# Altium footprint library Communication_Interfaces_RS485_SMD.PcbLib: 2 footprints
Each footprint in its own frame and in the unit in brackets; x right, y up, seen from the top. Pads: shape width x height; smd on the part's side, far side on the other; paste and mask are expansions set on the pad; w line width, h text height; cw(c..) or ccw(c..) is an arc to the next point about the centre after c.
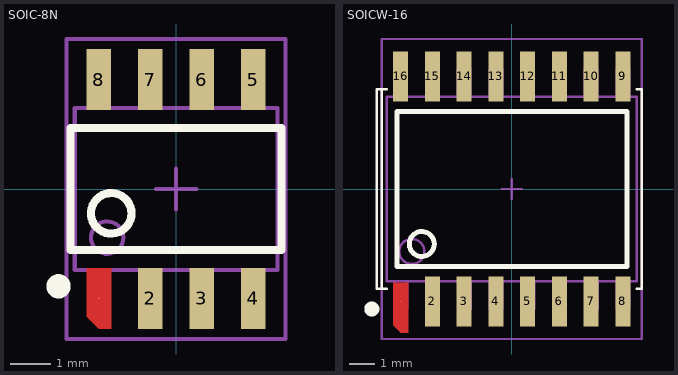
[diagram p0: the footprints below, top view; thin cyan lines are the x and y axes]

## SOIC-8N [mm]
height 1.75
pads (8):
  round 0.025 smd: 1(-1.905,-2.7)
  rect 0.6x1.5 smd: 2(-0.635,-2.7) 3(0.635,-2.7) 4(1.905,-2.7) 5(1.905,2.7) 6(0.635,2.7) 7(-0.635,2.7) 8(-1.905,2.7)
Top Layer:
  region: -2.205,-1.95 -1.605,-1.95 -1.605,-3.45 -1.905,-3.45 -2.205,-3.15
Top Overlay:
  circle w0.2: c-1.6,-0.6 r0.5
  circle w0.3: c-2.9,-2.4 r0.15
  lines w0.2: -2.6,-1.5 2.6,-1.5 2.6,1.5 -2.6,1.5 -2.6,-1.5
Top Package:
  circle w0.1: c-1.7,-1.2 r0.4
  lines w0.1: -2.5,-2 2.5,-2 2.5,2 -2.5,2 -2.5,-2 ; -2.075,-3 -2.075,-2 -1.75,-2 -1.75,-3 -2.075,-3 ; -2.075,2 -1.75,2 -1.75,3 -2.075,3 -2.075,2 ; -0.804,-2.998 -0.479,-2.998 -0.479,-1.998 -0.804,-1.998 -0.804,-2.998 ; -0.804,1.998 -0.479,1.998 -0.479,2.998 -0.804,2.998 -0.804,1.998 ; 0.479,-2.998 0.479,-1.998 0.804,-1.998 0.804,-2.998 0.479,-2.998 ; 0.479,1.998 0.479,2.998 0.804,2.998 0.804,1.998 0.479,1.998 ; 1.749,-3.002 2.074,-3.002 2.074,-2.002 1.749,-2.002 1.749,-3.002 ; 1.75,2 2.075,2 2.075,3 1.75,3 1.75,2
Top Comment:
  text ".Comment" at -2.127,-0.473 h1.5
Top Designator:
  text ".Designator" at -3.443,-0.452 h2
Top Border:
  lines w0.1: -0.5,0 0.5,0 ; 0,-0.5 0,0.5 ; -2.7,-3.7 2.7,-3.7 2.7,3.7 -2.7,3.7 -2.7,-3.7
3D body "User Library-SOIC-8-1.step": height 1.75, standoff 0, extent -2.451,-3.002 2.449,2.998

## SOICW-16 [mm] "7.50mm"
height 2
pads (16):
  round 0.025 smd: 1(-4.445,-4.5)
  rect 0.6x2 smd: 2(-3.175,-4.5) 3(-1.905,-4.5) 4(-0.635,-4.5) 5(0.635,-4.5) 6(1.905,-4.5) 7(3.175,-4.5) 8(4.445,-4.5) 9(4.445,4.5) 10(3.175,4.5) 11(1.905,4.5) 12(0.635,4.5) 13(-0.635,4.5) 14(-1.905,4.5) 15(-3.175,4.5) 16(-4.445,4.5)
Top Layer:
  region: -4.745,-3.75 -4.145,-3.75 -4.145,-5.75 -4.445,-5.75 -4.745,-5.45
Top Overlay:
  circle w0.2: c-3.6,-2.2 r0.5
  circle w0.3: c-5.6,-4.8 r0.15
  lines w0.1: -5.2,-4 -5.2,4 ; -5,-4 -5.4,-4 -5.4,4 -5,4 ; 5,-4 5.2,-4 5.2,4 5,4
  lines w0.2: -4.6,-3.1 4.6,-3.1 4.6,3.1 -4.6,3.1 -4.6,-3.1
Top Package:
  circle w0.1: c-4,-2.5 r0.5
  lines w0.1: -4.7,3.7 -4.7,4.8 -4.2,4.8 -4.2,3.7 ; -4.7,4.25 -4.2,4.25 ; -4.69,-4.25 -4.19,-4.25 ; -4.69,-3.7 -4.69,-4.8 -4.19,-4.8 -4.19,-3.7 ; -3.43,3.7 -3.43,4.8 -2.93,4.8 -2.93,3.7 ; -3.43,4.25 -2.93,4.25 ; -3.42,-4.25 -2.92,-4.25 ; -3.42,-3.7 -3.42,-4.8 -2.92,-4.8 -2.92,-3.7 ; -2.16,3.7 -2.16,4.8 -1.66,4.8 -1.66,3.7 ; -2.16,4.25 -1.66,4.25 ; -2.15,-4.25 -1.65,-4.25 ; -2.15,-3.7 -2.15,-4.8 -1.65,-4.8 -1.65,-3.7 ; -0.89,3.7 -0.89,4.8 -0.39,4.8 -0.39,3.7 ; -0.89,4.25 -0.39,4.25 ; -0.88,-4.25 -0.38,-4.25 ; -0.88,-3.7 -0.88,-4.8 -0.38,-4.8 -0.38,-3.7 ; 0.38,3.7 0.38,4.8 0.88,4.8 0.88,3.7 ; 0.38,4.25 0.88,4.25 ; 0.39,-4.25 0.89,-4.25 ; 0.39,-3.7 0.39,-4.8 0.89,-4.8 0.89,-3.7 ; 1.65,3.7 1.65,4.8 2.15,4.8 2.15,3.7 ; 1.65,4.25 2.15,4.25 ; 1.66,-4.25 2.16,-4.25 ; 1.66,-3.7 1.66,-4.8 2.16,-4.8 2.16,-3.7 ; 2.92,3.7 2.92,4.8 3.42,4.8 3.42,3.7 ; 2.92,4.25 3.42,4.25 ; 2.93,-4.25 3.43,-4.25 ; 2.93,-3.7 2.93,-4.8 3.43,-4.8 3.43,-3.7 ; 4.19,3.7 4.19,4.8 4.69,4.8 4.69,3.7 ; 4.19,4.25 4.69,4.25 ; 4.2,-4.25 4.7,-4.25 ; 4.2,-3.7 4.2,-4.8 4.7,-4.8 4.7,-3.7 ; -5,-3.7 -5,3.7 5,3.7 5,-3.7 -5,-3.7
Top Comment:
  text ".Comment" at -2.127,-0.473 h1.5
Top Designator:
  text ".Designator" at -3.443,-0.452 h2
Top Border:
  lines w0.1: -0.4,0 0.4,0 ; 0,-0.4 0,0.4 ; -5.2,-6 5.2,-6 5.2,6 -5.2,6 -5.2,-6
3D body "SOIC-16 (3.9).step": height 1.4, standoff 0, extent -4.95,-3 4.95,3
3D body "User Library-SOIC16_Wide_JEDEC_MS-013AA.step": height 2.62, standoff -0.03, extent -5.25,-5.315 5.25,5.315